# Altium schematic symbol library libASMR.SchLib: 19 symbols
Pins are listed as number, name and electrical type; pins without a type are passive.

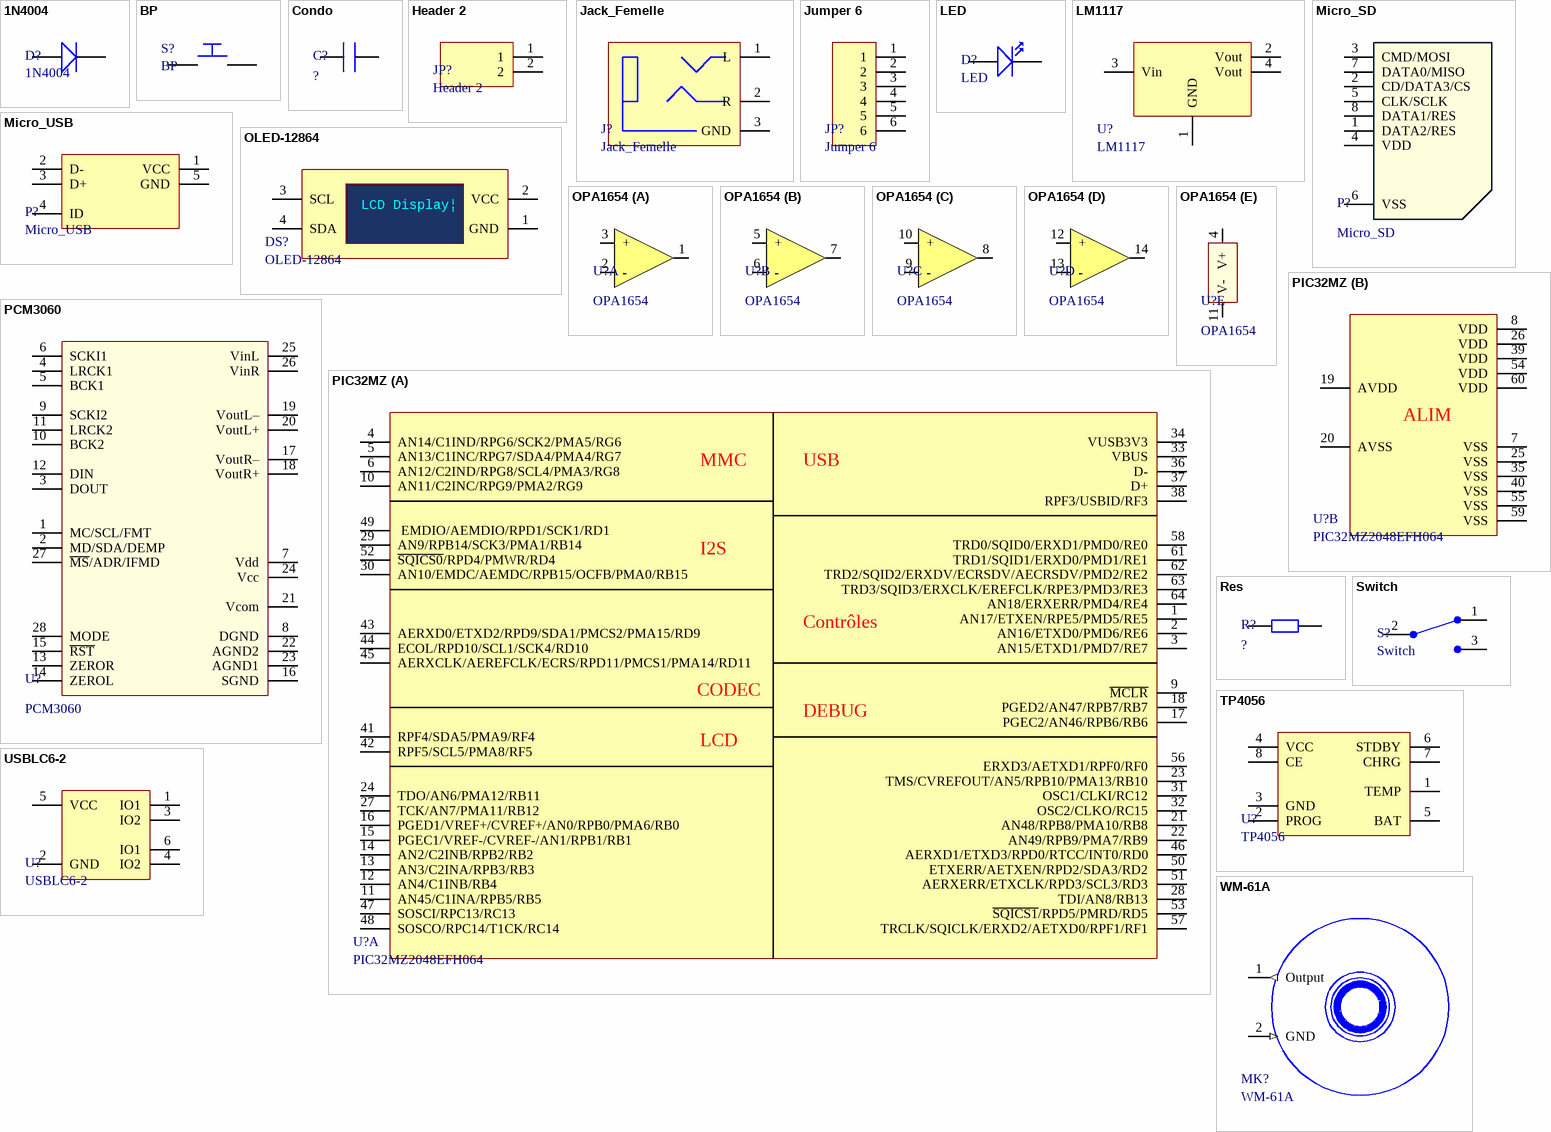
[diagram p0: symbols 1N4004 to WM-61A]

## 1N4004
designator D?  (no BOM)
Diode Standard
pins: 1 +, 2 -

## BP
designator S?  (no BOM)
Bouton Poussoir
pins: 1, 2

## Condo
designator C?  (value not drawn)  (no BOM)
Condensateur; Valeur: ?
pins: 1, 2

## Header 2
designator JP?  (no BOM)
Header 2 Pins Mâle
pins: 1, 2

## Jack_Femelle
designator J?
Prise Mini Jack Stéréo Femelle
pins: 1 L, 2 R, 3 GND

## Jumper 6
designator JP?  (no BOM)
Jumper 6 Pins Mâle-Femelle
pins: 1, 2, 3, 4, 5, 6

## LED
designator D?  (no BOM)
LED Standard
pins: 1 +, 2 -

## LM1117
designator U?
Régulateur de tension; Fabricant: Texas Instruments; DataSheet: http://www.farnell.com/datasheets/2019100.pdf; RefFabricant: LM1117
pins: 1 GND, 2 Vout, 3 Vin, 4 Vout

## Micro_SD
designator P?
Embase de Carte SD
pins: 1 DATA2/RES, 2 CD/DATA3/CS, 3 CMD/MOSI, 4 VDD (power), 5 CLK/SCLK, 6 VSS (power), 7 DATA0/MISO, 8 DATA1/RES

## Micro_USB
designator P?
Prise Micro USB Femelle
pins: 1 VCC, 2 D-, 3 D+, 4 ID, 5 GND

## OLED-12864
designator DS?
Ecran LCD 0.96" 128x64pix; Fabricant: Vishay; RefFabricant: OLED-12864; DataSheet: https://www.vishay.com/docs/37902/oled128o064dbpp3n00000.pdf; Tutorial: https://cdn-learn.adafruit.com/downloads/pdf/monochrome-oled-breakouts.pdf
pins: 1 GND, 2 VCC, 3 SCL, 4 SDA
text: LCD Display|

## OPA1654
designator U?
Quad Audio AmpliOp; Fabricant: TEXAS INSTRUMENTS; RefFabricant: OPA1654; DataSheet: http://www.ti.com/lit/ds/symlink/opa1654.pdf
part A pins: 1 OUT, 2 -, 3 +
part B pins: 5 +, 6 -, 7 OUT
part C pins: 8 OUT, 9 -, 10 +
part D pins: 12 +, 13 -, 14 OUT
part E pins: 4 V+ (power), 11 V- (power)

## PCM3060
designator U?
Stéréo In/Out Audio Codec; Fabricant: TEXAS INSTRUMENTS; RefFabricant: PCM3060PW; Datasheet: http://www.ti.com/lit/ds/symlink/pcm3060.pdf
pins: 1 MC/SCL/FMT, 2 MD/SDA/DEMP, 3 DOUT, 4 LRCK1, 5 BCK1, 6 SCKI1, 7 Vdd, 8 DGND, 9 SCKI2, 10 BCK2, 11 LRCK2, 12 DIN, 13 ZEROR, 14 ZEROL, 15 ~{RST}, 16 SGND, 17 VoutR–, 18 VoutR+, 19 VoutL–, 20 VoutL+, 21 Vcom, 22 AGND2, 23 AGND1, 24 Vcc, 25 VinL, 26 VinR, 27 ~{MS}/ADR/IFMD, 28 MODE

## PIC32MZ
designator U?, comment PIC32MZ2048EFH064
Micro-contrôleur PIC32MZ; Fabricant: Microchip; RefFabricant: PIC32MZ2048EFH064; DataSheet: http://ww1.microchip.com/downloads/en/DeviceDoc/60001320D.pdf
part A pins: 1 AN17/ETXEN/RPE5/PMD5/RE5, 2 AN16/ETXD0/PMD6/RE6, 3 AN15/ETXD1/PMD7/RE7, 4 AN14/C1IND/RPG6/SCK2/PMA5/RG6, 5 AN13/C1INC/RPG7/SDA4/PMA4/RG7, 6 AN12/C2IND/RPG8/SCL4/PMA3/RG8, 9 ~{MCLR}, 10 AN11/C2INC/RPG9/PMA2/RG9, 11 AN45/C1INA/RPB5/RB5, 12 AN4/C1INB/RB4, 13 AN3/C2INA/RPB3/RB3 , 14 AN2/C2INB/RPB2/RB2, 15 PGEC1/VREF-/CVREF-/AN1/RPB1/RB1, 16 PGED1/VREF+/CVREF+/AN0/RPB0/PMA6/RB0, 17 PGEC2/AN46/RPB6/RB6, 18 PGED2/AN47/RPB7/RB7, 21 AN48/RPB8/PMA10/RB8, 22 AN49/RPB9/PMA7/RB9, 23 TMS/CVREFOUT/AN5/RPB10/PMA13/RB10, 24 TDO/AN6/PMA12/RB11 , 27 TCK/AN7/PMA11/RB12, 28 TDI/AN8/RB13, 29 AN9/RPB14/SCK3/PMA1/RB14, 30 AN10/EMDC/AEMDC/RPB15/OCFB/PMA0/RB15, 31 OSC1/CLKI/RC12, 32 OSC2/CLKO/RC15, 33 VBUS, 34 VUSB3V3, 36 D-, 37 D+, 38 RPF3/USBID/RF3, 41 RPF4/SDA5/PMA9/RF4, 42 RPF5/SCL5/PMA8/RF5, 43 AERXD0/ETXD2/RPD9/SDA1/PMCS2/PMA15/RD9, 44 ECOL/RPD10/SCL1/SCK4/RD10, 45 AERXCLK/AEREFCLK/ECRS/RPD11/PMCS1/PMA14/RD11 , 46 AERXD1/ETXD3/RPD0/RTCC/INT0/RD0, 47 SOSCI/RPC13/RC13, 48 SOSCO/RPC14/T1CK/RC14, 49  EMDIO/AEMDIO/RPD1/SCK1/RD1, 50 ETXERR/AETXEN/RPD2/SDA3/RD2, 51 AERXERR/ETXCLK/RPD3/SCL3/RD3, 52 ~{SQICS0}/RPD4/PMWR/RD4 , 53 ~{SQICS1}/RPD5/PMRD/RD5, 56 ERXD3/AETXD1/RPF0/RF0, 57 TRCLK/SQICLK/ERXD2/AETXD0/RPF1/RF1, 58 TRD0/SQID0/ERXD1/PMD0/RE0, 61 TRD1/SQID1/ERXD0/PMD1/RE1, 62 TRD2/SQID2/ERXDV/ECRSDV/AECRSDV/PMD2/RE2, 63 TRD3/SQID3/ERXCLK/EREFCLK/RPE3/PMD3/RE3, 64 AN18/ERXERR/PMD4/RE4
part B pins: 7 VSS, 8 VDD, 19 AVDD, 20 AVSS, 25 VSS, 26 VDD, 35 VSS, 39 VDD, 40 VSS, 54 VDD, 55 VSS, 59 VSS, 60 VDD
part A text: MMC; USB; I2S; Contrôles; CODEC; DEBUG; LCD
part B text: ALIM

## Res
designator R?  (value not drawn)  (no BOM)
Résistance; Valeur: ?
pins: 1, 2

## Switch
designator S?  (no BOM)
Switch Standard 3 Pins
pins: 1 Vout, 2 Vin, 3 NC

## TP4056
designator U?
Adaptateur de charge USB vers Batterie; DataSheet: https://dlnmh9ip6v2uc.cloudfront.net/datasheets/Prototyping/TP4056.pdf
pins: 1 TEMP, 2 PROG, 3 GND, 4 VCC, 5 BAT, 6 STDBY, 7 CHRG, 8 CE

## USBLC6-2
designator U?
Protection_ESD; DataSheet: http://www.st.com/content/ccc/resource/technical/document/datasheet/06/1d/48/9c/6c/20/4a/b2/CD00050750.pdf/files/CD00050750.pdf/jcr:content/translations/en.CD00050750.pdf
pins: 1 IO1, 2 GND, 3 IO2, 4 IO2, 5 VCC, 6 IO1

## WM-61A
designator MK?
Microphone (sur Header); Fabricant: INSIKES; RefFabricant: WM-61A; DataSheet: https://components101.com/sites/default/files/component_datasheet/Electret%20Condenser%20Microphone.pdf
pins: 1 Output (out), 2 GND (in)